# Altium schematic symbol library Saftey_loop_relay.SchLib: 1 symbol
Pins are listed as number, name and electrical type; pins without a type are passive.

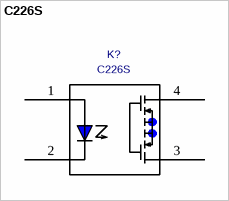
[diagram p0: symbol C226S]

## C226S
designator K?
Mfr_Name: Coto; Value: Solid State Relays; C: Copyright (C) 2021 Accelerated Designs. All rights reserved; Copyright: Copyright (C) 2024 Ultra Librarian. All rights reserved.; Manufacturer_Part_Number: C226S; Digi-Key_Part_Number_1: 306-1358-ND
footprint SOP254P710X255-4N (SOP, 4-Leads, Body 4.57x4.38mm, Pitch 2.54mm, IPC Medium Density)
pins: 1, 2, 3, 4